# Altium schematic symbol library SPW-SPAI-ANODE-002D-SCH-FM_Library.SchLib: 39 symbols
Pins are listed as number, name and electrical type; pins without a type are passive.

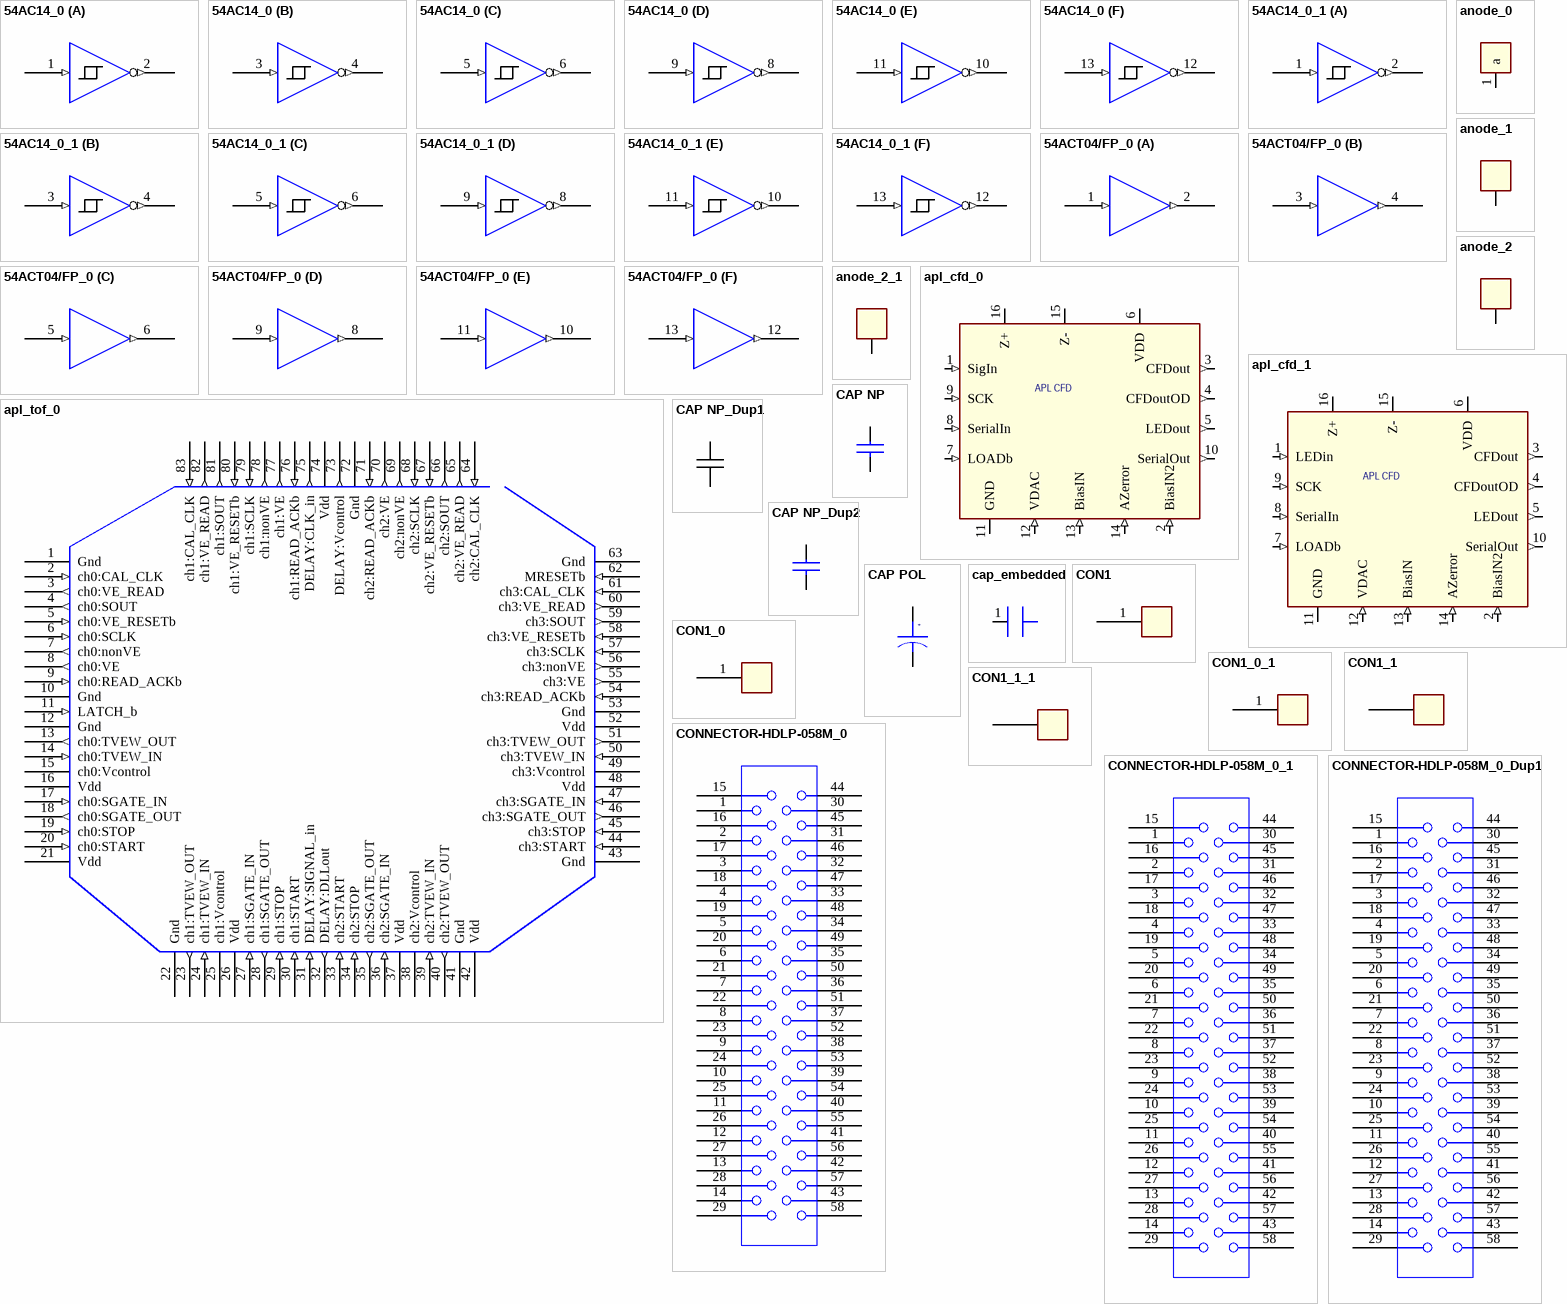
[diagram p0: symbols 54AC14_0 to CONNECTOR-HDLP-058M_0_Dup1]

## 54AC14_0
designator U?
part A pins: 1 A (in), 2 Y (out), 7 GND (power) hidden to GND, 14 3.3V (power) hidden to 3.3V
part B pins: 3 A (in), 4 Y (out), 7 GND (power) hidden to GND, 14 3.3V (power) hidden to 3.3V
part C pins: 5 A (in), 6 Y (out), 7 GND (power) hidden to GND, 14 3.3V (power) hidden to 3.3V
part D pins: 7 GND (power) hidden to GND, 8 Y (out), 9 A (in), 14 3.3V (power) hidden to 3.3V
part E pins: 7 GND (power) hidden to GND, 10 Y (out), 11 A (in), 14 3.3V (power) hidden to 3.3V
part F pins: 7 GND (power) hidden to GND, 12 Y (out), 13 A (in), 14 3.3V (power) hidden to 3.3V

## 54AC14_0_1
designator U?
part A pins: 1 A (in), 2 Y (out), 7 GND (power) hidden to GND, 14 3.3V (power) hidden to 3.3V
part B pins: 3 A (in), 4 Y (out), 7 GND (power) hidden to GND, 14 3.3V (power) hidden to 3.3V
part C pins: 5 A (in), 6 Y (out), 7 GND (power) hidden to GND, 14 3.3V (power) hidden to 3.3V
part D pins: 7 GND (power) hidden to GND, 8 Y (out), 9 A (in), 14 3.3V (power) hidden to 3.3V
part E pins: 7 GND (power) hidden to GND, 10 Y (out), 11 A (in), 14 3.3V (power) hidden to 3.3V
part F pins: 7 GND (power) hidden to GND, 12 Y (out), 13 A (in), 14 3.3V (power) hidden to 3.3V

## 54ACT04/FP_0
designator U?
part A pins: 1 I (in), 2 O (out), 7 GND (power) hidden to GND, 14 VCC (power) hidden to VCC
part B pins: 3 I (in), 4 O (out), 7 GND (power) hidden to GND, 14 VCC (power) hidden to VCC
part C pins: 5 I (in), 6 O (out), 7 GND (power) hidden to GND, 14 VCC (power) hidden to VCC
part D pins: 7 GND (power) hidden to GND, 8 O (out), 9 I (in), 14 VCC (power) hidden to VCC
part E pins: 7 GND (power) hidden to GND, 10 O (out), 11 I (in), 14 VCC (power) hidden to VCC
part F pins: 7 GND (power) hidden to GND, 12 O (out), 13 I (in), 14 VCC (power) hidden to VCC

## anode_0
designator A?
footprint anode
pins: 1 a

## anode_1
designator A?
footprint anode
pins: 1 a

## anode_2
designator A?  (value not drawn)
footprint anode
pins: 1 a

## anode_2_1
designator A?  (value not drawn)
footprint anode
pins: 1 a

## apl_cfd_0
designator U?
footprint lcc16
pins: 1 SigIn (in), 2 BiasIN2 (in), 3 CFDout (out), 4 CFDoutOD (out), 5 LEDout (out), 6 VDD (power), 7 LOADb (in), 8 SerialIn (in), 9 SCK (in), 10 SerialOut (out), 11 GND (power), 12 VDAC (in), 13 BiasIN (in), 14 AZerror (in), 15 Z- (io), 16 Z+ (io)
text: APL CFD

## apl_cfd_1
designator U?
footprint lcc16
pins: 1 LEDin (in), 2 BiasIN2 (in), 3 CFDout (out), 4 CFDoutOD (out), 5 LEDout (out), 6 VDD (power), 7 LOADb (in), 8 SerialIn (in), 9 SCK (in), 10 SerialOut (out), 11 GND (power), 12 VDAC (in), 13 BiasIN (in), 14 AZerror (in), 15 Z- (io), 16 Z+ (io)
text: APL CFD

## apl_tof_0
designator U?
footprint qfp84_tof
pins: 1 Gnd (power), 2 ch0:CAL_CLK (in), 3 ch0:VE_READ (out), 4 ch0:SOUT (out), 5 ch0:VE_RESETb (in), 6 ch0:SCLK (in), 7 ch0:nonVE (out), 8 ch0:VE (out), 9 ch0:READ_ACKb (in), 10 Gnd (power), 11 LATCH_b (in), 12 Gnd (power), 13 ch0:TVEW_OUT (out), 14 ch0:TVEW_IN (in), 15 ch0:Vcontrol, 16 Vdd (power), 17 ch0:SGATE_IN (in), 18 ch0:SGATE_OUT (out), 19 ch0:STOP (in), 20 ch0:START (in), 21 Vdd (power), 22 Gnd (power), 23 ch1:TVEW_OUT (out), 24 ch1:TVEW_IN (in), 25 ch1:Vcontrol, 26 Vdd (power), 27 ch1:SGATE_IN (in), 28 ch1:SGATE_OUT (out), 29 ch1:STOP (in), 30 ch1:START (in), 31 DELAY:SIGNAL_in (in), 32 DELAY:DLLout (out), 33 ch2:START (in), 34 ch2:STOP (in), 35 ch2:SGATE_OUT (out), 36 ch2:SGATE_IN (in), 37 Vdd (power), 38 ch2:Vcontrol, 39 ch2:TVEW_IN (in), 40 ch2:TVEW_OUT (out), 41 Gnd (power), 42 Vdd (power), 43 Gnd (power), 44 ch3:START (in), 45 ch3:STOP (in), 46 ch3:SGATE_OUT (out), 47 ch3:SGATE_IN (in), 48 Vdd (power), 49 ch3:Vcontrol, 50 ch3:TVEW_IN (in), 51 ch3:TVEW_OUT (out), 52 Vdd (power), 53 Gnd (power), 54 ch3:READ_ACKb (in), 55 ch3:VE (out), 56 ch3:nonVE (out), 57 ch3:SCLK (in), 58 ch3:VE_RESETb (in), 59 ch3:SOUT (out), 60 ch3:VE_READ (out), 61 ch3:CAL_CLK (in), 62 MRESETb (in), 63 Gnd (power), 64 ch2:CAL_CLK (in), 65 ch2:VE_READ (out), 66 ch2:SOUT (out), 67 ch2:VE_RESETb (in), 68 ch2:SCLK (in), 69 ch2:nonVE (out), 70 ch2:VE (out), 71 ch2:READ_ACKb (in), 72 Gnd (power), 73 DELAY:Vcontrol (out), 74 Vdd (power), 75 DELAY:CLK_in (out), 76 ch1:READ_ACKb (in), 77 ch1:VE (out), 78 ch1:nonVE (out), 79 ch1:SCLK (in), 80 ch1:VE_RESETb (in), 81 ch1:SOUT (out), 82 ch1:VE_READ (out), 83 ch1:CAL_CLK (in)

## CAP NP
designator C?
pins: 1, 2

## CAP NP_Dup1
designator C?
Pin Numbers Visible: True; Pin Names Visible: False; EDIForiginalOrigin: (pt 0 0); EDIFviewName: NORMAL
pins: 1, 2

## CAP NP_Dup2
designator C?
pins: 1, 2

## CAP POL
designator C?
pins: 1, 2
text: +

## cap_embedded
designator C?
footprint cap_emb
pins: 1

## CON1
designator J?
pins: 1

## CON1_0
designator J?  (value not drawn)
pins: 1

## CON1_0_1
designator J?  (value not drawn)
pins: 1

## CON1_1
designator J?  (value not drawn)
pins: 1

## CON1_1_1
designator J?  (value not drawn)
pins: 1

## CONNECTOR-HDLP-058M_0
designator J?  (value not drawn)
OriginalSymbolOrigin: (0,0)
pins: 1, 2, 3, 4, 5, 6, 7, 8, 9, 10, 11, 12, 13, 14, 15, 16, 17, 18, 19, 20, 21, 22, 23, 24, 25, 26, 27, 28, 29, 30, 31, 32, 33, 34, 35, 36, 37, 38, 39, 40, 41, 42, 43, 44, 45, 46, 47, 48, 49, 50, 51, 52, 53, 54, 55, 56, 57, 58, 59 GND (power) hidden, 60 GND (power) hidden

## CONNECTOR-HDLP-058M_0_1
designator J?  (value not drawn)
OriginalSymbolOrigin: (0,0)
pins: 1, 2, 3, 4, 5, 6, 7, 8, 9, 10, 11, 12, 13, 14, 15, 16, 17, 18, 19, 20, 21, 22, 23, 24, 25, 26, 27, 28, 29, 30, 31, 32, 33, 34, 35, 36, 37, 38, 39, 40, 41, 42, 43, 44, 45, 46, 47, 48, 49, 50, 51, 52, 53, 54, 55, 56, 57, 58, 59 GND (power) hidden, 60 GND (power) hidden

## CONNECTOR-HDLP-058M_0_Dup1
designator J?  (value not drawn)
OriginalSymbolOrigin: (0,0)
pins: 1, 2, 3, 4, 5, 6, 7, 8, 9, 10, 11, 12, 13, 14, 15, 16, 17, 18, 19, 20, 21, 22, 23, 24, 25, 26, 27, 28, 29, 30, 31, 32, 33, 34, 35, 36, 37, 38, 39, 40, 41, 42, 43, 44, 45, 46, 47, 48, 49, 50, 51, 52, 53, 54, 55, 56, 57, 58

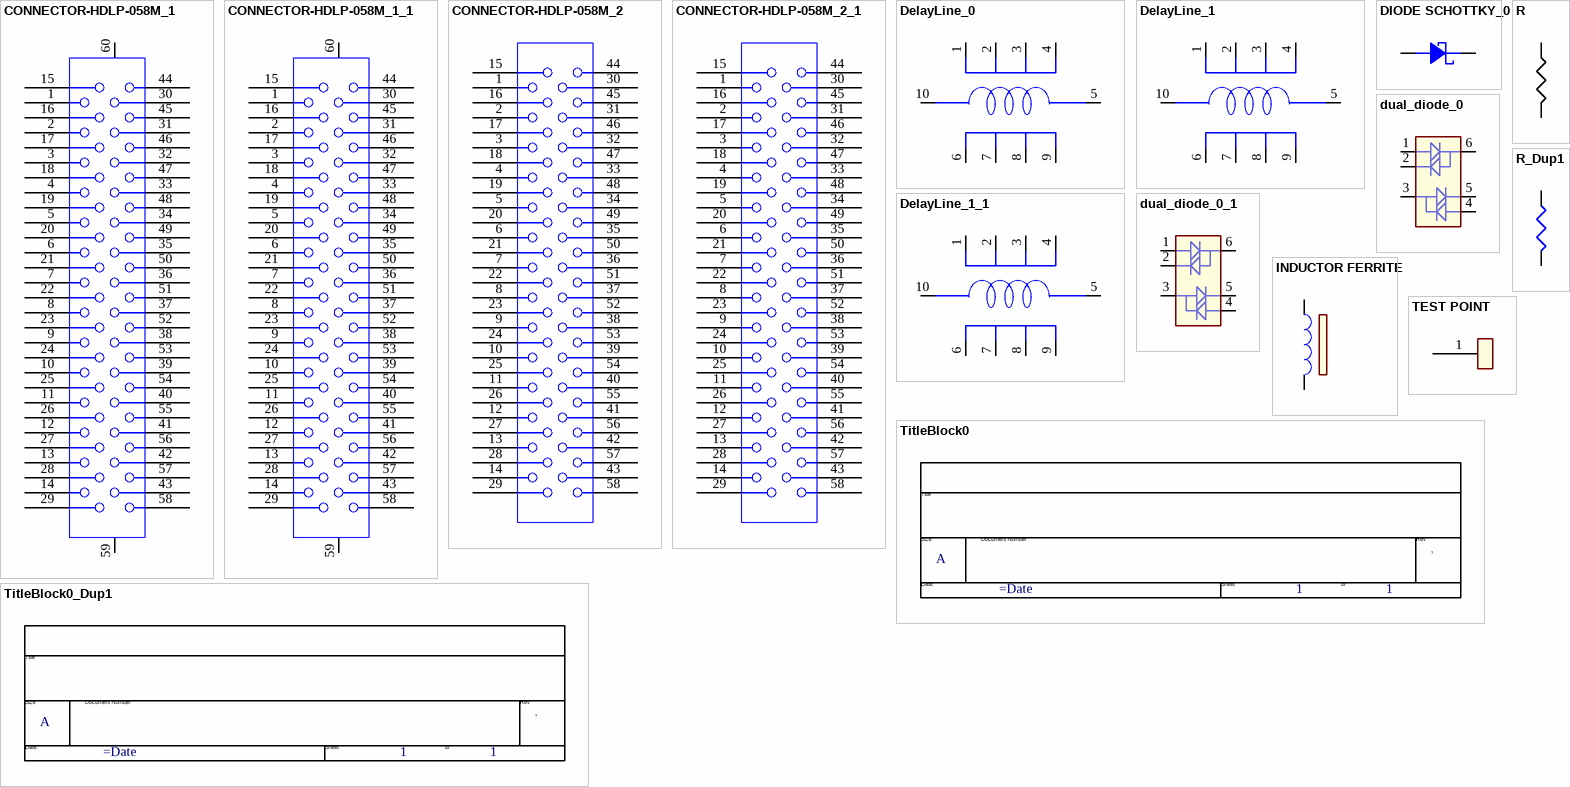
[diagram p1: symbols CONNECTOR-HDLP-058M_1 to TitleBlock0_Dup1]

## CONNECTOR-HDLP-058M_1
designator J?  (value not drawn)
OriginalSymbolOrigin: (0,0)
pins: 1, 2, 3, 4, 5, 6, 7, 8, 9, 10, 11, 12, 13, 14, 15, 16, 17, 18, 19, 20, 21, 22, 23, 24, 25, 26, 27, 28, 29, 30, 31, 32, 33, 34, 35, 36, 37, 38, 39, 40, 41, 42, 43, 44, 45, 46, 47, 48, 49, 50, 51, 52, 53, 54, 55, 56, 57, 58, 59 GND (power), 60 GND (power)

## CONNECTOR-HDLP-058M_1_1
designator J?  (value not drawn)
OriginalSymbolOrigin: (0,0)
pins: 1, 2, 3, 4, 5, 6, 7, 8, 9, 10, 11, 12, 13, 14, 15, 16, 17, 18, 19, 20, 21, 22, 23, 24, 25, 26, 27, 28, 29, 30, 31, 32, 33, 34, 35, 36, 37, 38, 39, 40, 41, 42, 43, 44, 45, 46, 47, 48, 49, 50, 51, 52, 53, 54, 55, 56, 57, 58, 59 GND (power), 60 GND (power)

## CONNECTOR-HDLP-058M_2
designator J?  (value not drawn)
OriginalSymbolOrigin: (0,0)
pins: 1, 2, 3, 4, 5, 6, 7, 8, 9, 10, 11, 12, 13, 14, 15, 16, 17, 18, 19, 20, 21, 22, 23, 24, 25, 26, 27, 28, 29, 30, 31, 32, 33, 34, 35, 36, 37, 38, 39, 40, 41, 42, 43, 44, 45, 46, 47, 48, 49, 50, 51, 52, 53, 54, 55, 56, 57, 58

## CONNECTOR-HDLP-058M_2_1
designator J?  (value not drawn)
OriginalSymbolOrigin: (0,0)
pins: 1, 2, 3, 4, 5, 6, 7, 8, 9, 10, 11, 12, 13, 14, 15, 16, 17, 18, 19, 20, 21, 22, 23, 24, 25, 26, 27, 28, 29, 30, 31, 32, 33, 34, 35, 36, 37, 38, 39, 40, 41, 42, 43, 44, 45, 46, 47, 48, 49, 50, 51, 52, 53, 54, 55, 56, 57, 58

## DelayLine_0
designator DL?
footprint CDM10
pins: 1 GND1, 2 GND2, 3 GND3, 4 GND4, 5 OUT (io), 6 GND5, 7 GND6, 8 GND7, 9 GND8, 10 IN (io)

## DelayLine_1
designator DL?
footprint CDM10
pins: 1 GND1, 2 GND2, 3 GND3, 4 GND4, 5 OUT, 6 GND5, 7 GND6, 8 GND7, 9 GND8, 10 IN

## DelayLine_1_1
designator DL?
footprint CDM10
pins: 1 GND1, 2 GND2, 3 GND3, 4 GND4, 5 OUT, 6 GND5, 7 GND6, 8 GND7, 9 GND8, 10 IN

## DIODE SCHOTTKY_0
designator D?
pins: 1 CATHODE, 2 ANODE

## dual_diode_0
designator D?
PartNumber: MMBD7000-V
footprint sot23
pins: 1, 2, 3, 4, 5, 6

## dual_diode_0_1
designator D?
PartNumber: MMBD7000-V
footprint sot23
pins: 1, 2, 3, 4, 5, 6

## INDUCTOR FERRITE
designator L?
pins: 1, 2

## R
designator R?
Pin Numbers Visible: True; Pin Names Visible: False; EDIForiginalOrigin: (pt 0 0); EDIFviewName: NORMAL
pins: 1, 2

## R_Dup1
designator R?
pins: 1, 2

## TEST POINT
designator TP?
pins: 1

## TitleBlock0
designator *  Page Count: 1  Page Size: A  (hidden comment: *)  (graphical)
Page Number: 1; RevCode: ?; Page Create Date: March  8, 1995; Page Modify Date: =Date
text: Title; Size; Document Number; Rev; Date:; Sheet; of

## TitleBlock0_Dup1
designator *  Page Size: A  Page Number: 1  (hidden comment: *)  (graphical)
Page Create Date: March  8, 1995; RevCode: ?; Page Count: 1; Page Modify Date: =Date
text: Title; Size; Document Number; Rev; Date:; Sheet; of